# Altium footprint library TYPE-QSFP.PcbLib: 8 footprints
Each footprint in its own frame and in the unit in brackets; x right, y up, seen from the top. Pads: shape width x height; smd on the part's side, far side on the other; paste and mask are expansions set on the pad; w line width, h text height; cw(c..) or ccw(c..) is an arc to the next point about the centre after c.
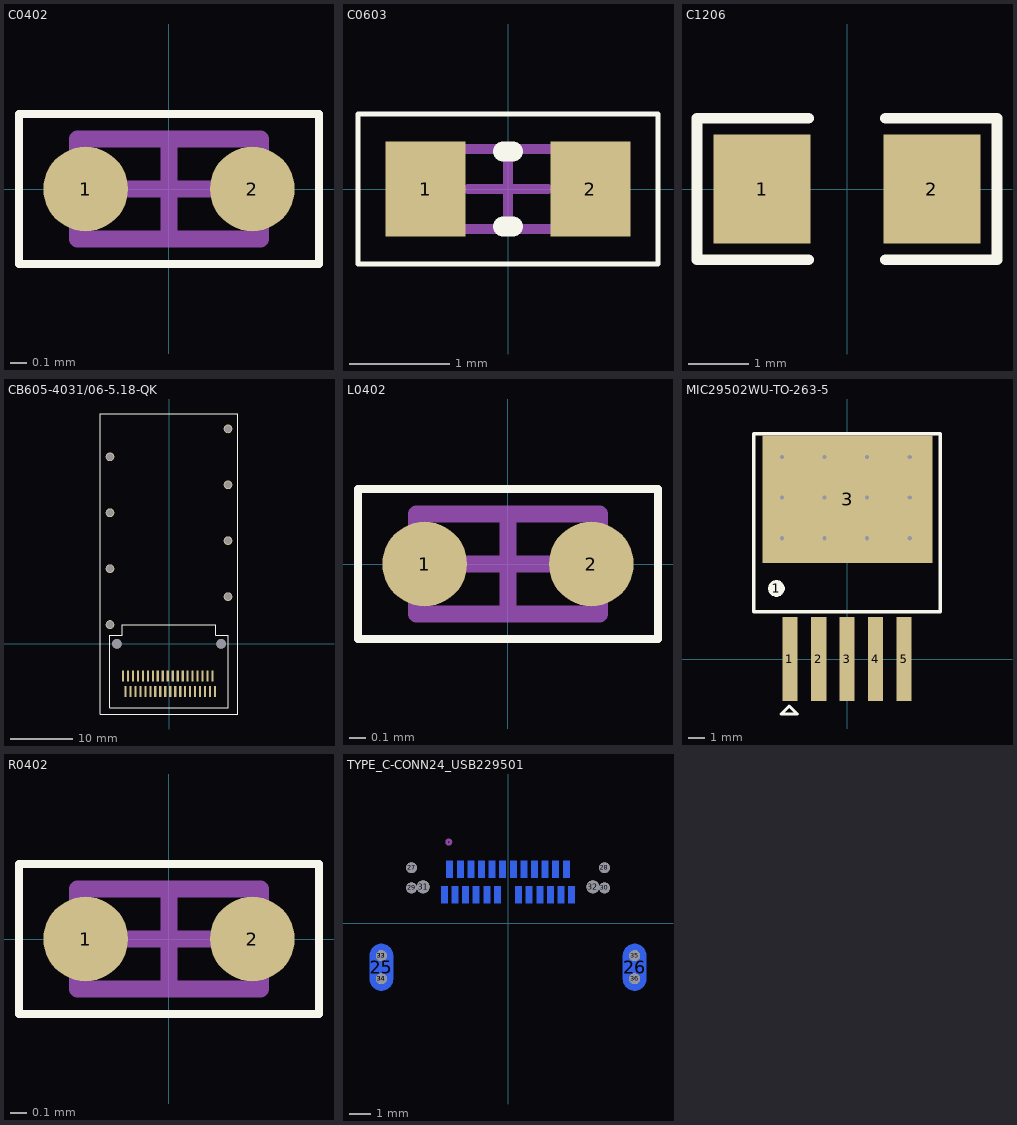
[diagram p0: the footprints below, top view; thin cyan lines are the x and y axes]

## C0402 [mil]
height 11.81
pads (2):
  round 20 smd: 1(-19.68,0) 2(19.68,0)
Top Overlay:
  lines w1.97: -35.43,-17.72 35.43,-17.72 35.43,17.72 -35.43,17.72 -35.43,-17.72
Mechanical 13:
  lines w3.94: -21.65,-11.81 -21.65,11.81 21.65,11.81 21.65,-11.81 -21.65,-11.81
Mechanical 15:
  lines w1.97: -35.43,-17.72 35.43,-17.72 35.43,17.72 -35.43,17.72 -35.43,-17.72
  lines w3.94: -9.84,0 9.84,0 ; 0,-9.84 0,9.84
3D body "C 0402.STEP": height 20.68, standoff 0.21, extent -19.68,-10.23 19.69,10.24

## C0603 [mm]
height 1.2
pads (2):
  rect 0.8x0.95 smd: 1(-0.825,0) 2(0.825,0)
Top Overlay:
  lines w0.05: -1.5,-0.75 -1.5,0.75 1.5,0.75 1.5,-0.75 -1.5,-0.75
  lines w0.2: -0.05,-0.375 0.05,-0.375 ; -0.05,0.375 0.05,0.375
Mechanical 13:
  lines w0.1: -0.8,-0.4 -0.8,0.4 0.8,0.4 0.8,-0.4 -0.8,-0.4
Mechanical 15:
  lines w0.1: -0.4,0 0.4,0 ; 0,-0.4 0,0.4
3D body "C 0603.STEP": height 0.81, standoff -0.01, extent -0.8,-0.41 0.8,0.41

## C1206 [mm]
pads (2):
  rect 1.6x1.8 smd: 1(-1.4,0) 2(1.4,0)
Top Overlay:
  lines w0.178: -0.635,-1.168 -2.476,-1.168 -2.476,1.168 -0.635,1.168 ; 0.635,-1.168 2.476,-1.168 2.476,1.168 0.635,1.168
3D body "C 1206.STEP": height 1.21, standoff -0.01, extent -1.6,-0.81 1.6,0.81

## CB605-4031/06-5.18-QK [mm]
pads (48):
  rect 0.35x1.8 smd: 1(7,-5.18) 2(6.2,-5.18) 3(5.4,-5.18) 4(4.6,-5.18) 5(3.8,-5.18) 6(3,-5.18) 7(2.2,-5.18) 8(1.4,-5.18) 9(0.6,-5.18) 10(-0.2,-5.18) 11(-1,-5.18) 12(-1.8,-5.18) 13(-2.6,-5.18) 14(-3.4,-5.18) 15(-4.2,-5.18) 16(-5,-5.18) 17(-5.8,-5.18) 18(-6.6,-5.18) 19(-7.4,-5.18) 20(-7,-7.69) 21(-6.2,-7.69) 22(-5.4,-7.69) 23(-4.6,-7.69) 24(-3.8,-7.69) 25(-3,-7.69) 26(-2.2,-7.69) 27(-1.4,-7.69) 28(-0.6,-7.69) 29(0.2,-7.69) 30(1,-7.69) 31(1.8,-7.69) 32(2.6,-7.69) 33(3.4,-7.69) 34(4.2,-7.69) 35(5,-7.69) 36(5.8,-7.69) 37(6.6,-7.69) 38(7.4,-7.69)
  round 1.4 hole 1.1: 39(-9.5,3.1) 39(-9.5,12.1) 39(-9.5,21.1) 39(-9.5,30.1) 39(9.5,7.6) 39(9.5,16.6) 39(9.5,25.6) 39(9.5,34.6)
  round 1.55 hole 1.55: ""(-8.4,0) ""(8.4,0)
Top Overlay:
  lines w0.1: -11.075,-11.3 -11.075,37 11.075,37 11.075,-11.3 -11.075,-11.3 ; -9.5,-10.3 -9.5,1.36 -7.51,1.36 -7.51,3.05 7.51,3.05 7.51,1.36 9.5,1.36 9.5,-10.3 -9.5,-10.3

## L0402 [mil]
height 11.81
pads (2):
  round 20 smd: 1(-19.68,0) 2(19.68,0)
Top Overlay:
  lines w1.97: -35.43,-17.72 35.43,-17.72 35.43,17.72 -35.43,17.72 -35.43,-17.72
Mechanical 13:
  lines w3.94: -21.65,-11.81 -21.65,11.81 21.65,11.81 21.65,-11.81 -21.65,-11.81
Mechanical 15:
  lines w1.97: -35.43,-17.72 35.43,-17.72 35.43,17.72 -35.43,17.72 -35.43,-17.72
  lines w3.94: -9.84,0 9.84,0 ; 0,-9.84 0,9.84
3D body "0402.STEP": height 19.68, standoff -0.11, extent -19.69,-9.84 19.69,9.84

## MIC29502WU-TO-263-5 [mm]
pads (7):
  round 1 on Top Overlay: 1(-4.216,4.216)
  rect 0.914x5.03 smd: 1(-3.41,0) 2(-1.7,0) 3(0,0) 4(1.7,0) 5(3.4,0)
  rect 10.16x7.62 smd: 3(0.025,9.55)
via -3.886,12.065 diameter 0.457 hole 0.254
via -1.346,12.065 diameter 0.457 hole 0.254
via 1.194,12.065 diameter 0.457 hole 0.254
via 3.734,12.065 diameter 0.457 hole 0.254
via -3.886,9.639 diameter 0.457 hole 0.254
via -1.346,9.639 diameter 0.457 hole 0.254
via 1.194,9.639 diameter 0.457 hole 0.254
via 3.734,9.639 diameter 0.457 hole 0.254
via -3.886,7.214 diameter 0.457 hole 0.254
via -1.346,7.214 diameter 0.457 hole 0.254
via 1.194,7.214 diameter 0.457 hole 0.254
via 3.734,7.214 diameter 0.457 hole 0.254
Top Overlay:
  lines w0.178: -3.937,-3.277 -3.454,-2.794 -2.972,-3.277 -3.937,-3.277
  lines w0.2: -5.563,2.819 5.563,2.819 5.563,13.445 -5.563,13.445 -5.563,2.819

## R0402 [mil]
height 11.81
pads (2):
  round 20 smd: 1(-19.68,0) 2(19.68,0)
Top Overlay:
  lines w1.97: -35.43,-17.72 35.43,-17.72 35.43,17.72 -35.43,17.72 -35.43,-17.72
Mechanical 13:
  lines w3.94: -21.65,-11.81 -21.65,11.81 21.65,11.81 21.65,-11.81 -21.65,-11.81
Mechanical 15:
  lines w1.97: -35.43,-17.72 35.43,-17.72 35.43,17.72 -35.43,17.72 -35.43,-17.72
  lines w3.94: -9.84,0 9.84,0 ; 0,-9.84 0,9.84
3D body "R0402.STEP": height 13.78, standoff 0, extent -19.68,-9.84 19.68,9.84

## TYPE_C-CONN24_USB229501 [mil]
pads (38):
  oval 43x87 smd far side: 25(-235.04,-81.67) 26(235.04,-81.67)
  round 20 hole 20: 27(-179.13,103.17) 28(179.13,103.17) 29(-179.13,65.73) 30(179.13,65.73) 33(-235.04,-60.17) 33(-235.04,-60.17) 34(-235.04,-103.17) 34(-235.04,-103.17) 35(235.04,-60.17) 36(235.04,-103.17)
  round 24 hole 24: 31(-157.48,67.74) 32(157.48,67.74)
  rect 12x32 smd far side paste+0 mask+0: A1(-108.27,100.38) A2(-88.58,100.38) A3(-68.9,100.38) A4(-49.21,100.38) A5(-29.53,100.38) A6(-9.84,100.38) A7(9.84,100.38) A8(29.53,100.38) A9(49.21,100.38) A10(68.9,100.38) A11(88.58,100.38) A12(108.27,100.38) B1(118.11,53.13) B2(98.43,53.13) B3(78.74,53.13) B4(59.06,53.13) B5(39.37,53.13) B6(19.68,53.13) B7(-19.68,53.13) B8(-39.37,53.13) B9(-59.06,53.13) B10(-78.74,53.13) B11(-98.43,53.13) B12(-118.11,53.13)
Bottom Overlay:
  circle w10: c-110,150.85 r4
  circle w10: c-110,150.85 r4
  lines w6: -244,-137.09 -244,-213.15 244,-213.15 244,-137.09 ; -244,-26.25 -244,115.85 -212.23,115.85 ; -146.03,115.85 -127.1,115.85 ; 127.1,115.85 146.03,115.85 ; 212.23,115.85 244,115.85 244,-26.25
Mechanical 13:
  circle w5: c-110,150.85 r4
Multi-Layer:
  lines w1: -189.13,65.73 -189.13,103.17 ; -179.13,55.73 -157.48,55.74 ; -169.13,103.17 -169.13,79.74 -157.48,79.74 ; 157.48,55.74 179.13,55.73 ; 157.48,79.74 169.13,79.74 169.13,103.17 ; 189.13,65.73 189.13,103.17 ; -245.04,-103.17 -245.04,-60.17 -245.04,-103.17 ; -225.04,-103.17 -225.04,-60.17 -225.04,-103.17 ; 225.04,-103.17 225.04,-60.17 225.04,-103.17 ; 245.04,-103.17 245.04,-60.17 245.04,-103.17